# Altium schematic symbol library Schlib1.SchLib: 3 symbols
Pins are listed as number, name and electrical type; pins without a type are passive.

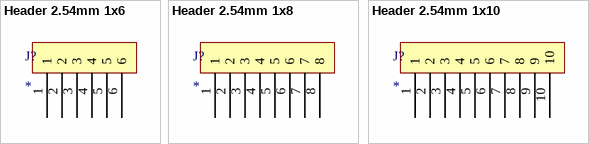
[diagram p0: symbols Header 2.54mm 1x6 to Header 2.54mm 1x10]

## Header 2.54mm 1x6
designator J?
Header 2.54mm 1x6
footprint Header 2.54mm 1x6
pins: 1, 2, 3, 4, 5, 6

## Header 2.54mm 1x8
designator J?
Header 2.54mm 1x8
footprint Header 2.54mm 1x8
pins: 1, 2, 3, 4, 5, 6, 7, 8

## Header 2.54mm 1x10
designator J?
Header 2.54mm 1x10
footprint header 2.54mm 1x10
pins: 1, 2, 3, 4, 5, 6, 7, 8, 9, 10